# Altium footprint library via.PcbLib: 3 footprints
Each footprint in its own frame and in the unit in brackets; x right, y up, seen from the top. Pads: shape width x height; smd on the part's side, far side on the other; paste and mask are expansions set on the pad; w line width, h text height; cw(c..) or ccw(c..) is an arc to the next point about the centre after c.
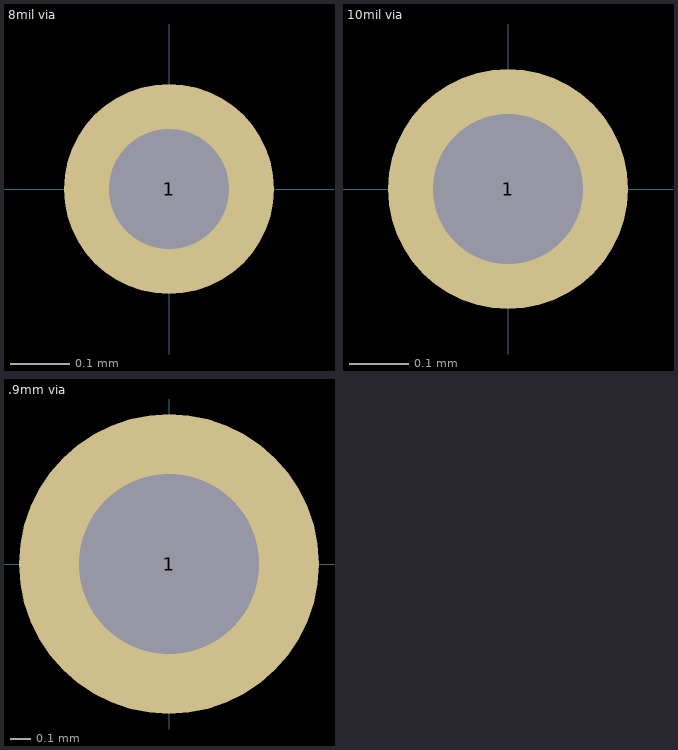
[diagram p0: the footprints below, top view; thin cyan lines are the x and y axes]

## 8mil via [mil] "8mil via 14mil pad"
pads (1):
  round 14 hole 8: 1(0,0)

## 10mil via [mil] "10mil via 16mil pad"
pads (1):
  round 16 hole 10: 1(0,0)

## .9mm via [mm] ".9mm via 1.5mm pad"
pads (1):
  round 1.5 hole 0.9: 1(0,0)